# Altium footprint library SOT25.PcbLib: 1 footprints
Each footprint in its own frame and in the unit in brackets; x right, y up, seen from the top. Pads: shape width x height; smd on the part's side, far side on the other; paste and mask are expansions set on the pad; w line width, h text height; cw(c..) or ccw(c..) is an arc to the next point about the centre after c.
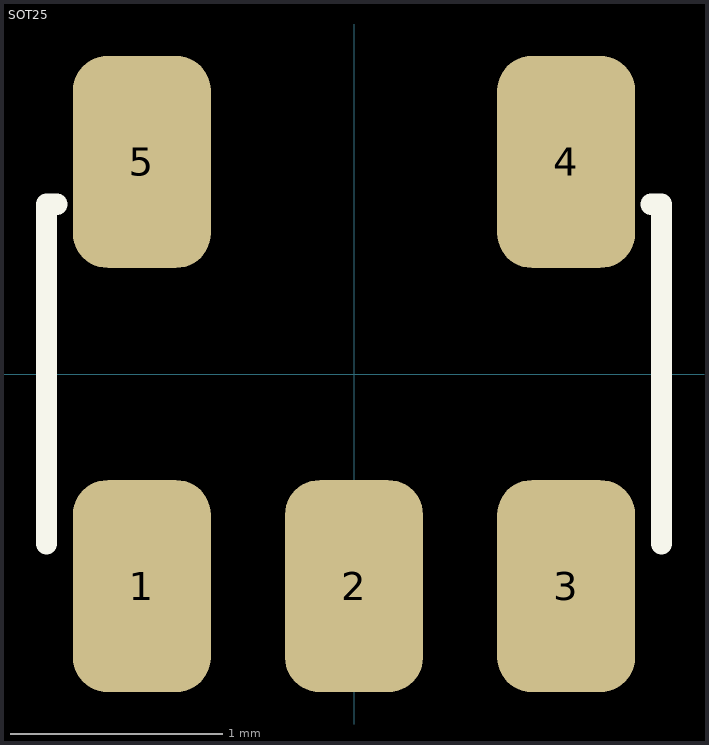
[diagram p0: the footprint, top view; thin cyan lines are the x and y axes]

## SOT25 [mm] "SOT23, 5-Leads, Body 2.9x1.3mm, Pitch 0.95mm, Lead Span 2.5mm"
height 1.45
pads (5):
  rrect50% 0.65x1 smd: 1(-1,-1) 2(0,-1) 3(1,-1) 4(1,1) 5(-1,1)
Top Overlay:
  lines w0.1: -1.45,-0.8 -1.45,0.8 -1.4,0.8 ; 1.4,0.8 1.45,0.8 1.45,-0.8
3D body "SOT25.STEP": height 1.45, standoff 0, extent -1.45,-1.405 1.45,1.405